# Altium footprint library LAN7800-IVSX.PcbLib: 3 footprints
Each footprint in its own frame and in the unit in brackets; x right, y up, seen from the top. Pads: shape width x height; smd on the part's side, far side on the other; paste and mask are expansions set on the pad; w line width, h text height; cw(c..) or ccw(c..) is an arc to the next point about the centre after c.
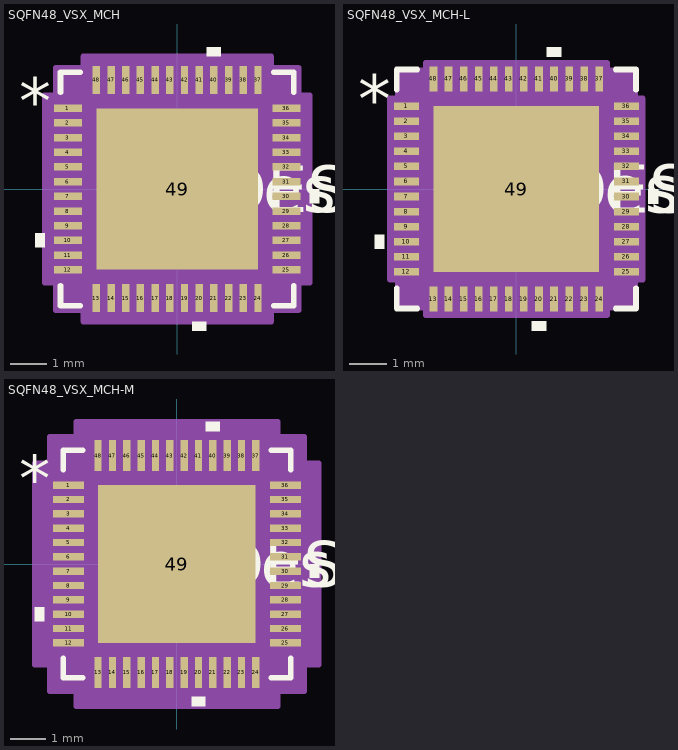
[diagram p0: the footprints below, top view; thin cyan lines are the x and y axes]

## SQFN48_VSX_MCH [mil]
pads (49):
  rect 30x8 smd paste+0 mask+0: 1(-117,86.61) 2(-117,70.87) 3(-117,55.12) 4(-117,39.37) 5(-117,23.62) 6(-117,7.87) 7(-117,-7.87) 8(-117,-23.62) 9(-117,-39.37) 10(-117,-55.12) 11(-117,-70.87) 12(-117,-86.61) 25(117,-86.61) 26(117,-70.87) 27(117,-55.12) 28(117,-39.37) 29(117,-23.62) 30(117,-7.87) 31(117,7.87) 32(117,23.62) 33(117,39.37) 34(117,55.12) 35(117,70.87) 36(117,86.61)
  rect 8x30 smd paste+0 mask+0: 13(-86.61,-117) 14(-70.87,-117) 15(-55.12,-117) 16(-39.37,-117) 17(-23.62,-117) 18(-7.87,-117) 19(7.87,-117) 20(23.62,-117) 21(39.37,-117) 22(55.12,-117) 23(70.87,-117) 24(86.61,-117) 37(86.61,117) 38(70.87,117) 39(55.12,117) 40(39.37,117) 41(23.62,117) 42(7.87,117) 43(-7.87,117) 44(-23.62,117) 45(-39.37,117) 46(-55.12,117) 47(-70.87,117) 48(-86.61,117)
  rect 173x173 smd paste-86.5 mask+0: 49(0,0)
Top Overlay:
  region: -142,-47.62 -152,-47.62 -152,-62.62 -142,-62.62
  region: 31.12,-142 16.12,-142 16.12,-152 31.12,-152
  region: 142,-0.37 152,-0.37 152,-15.37 142,-15.37
  region: 46.87,142 31.87,142 31.87,152 46.87,152
  lines w6: -125,-103.71 -125,-125 -103.71,-125 ; -125,103.71 -125,125 -103.71,125 ; 103.71,-125 125,-125 125,-103.71 ; 103.71,125 125,125 125,103.71
  text "*" at -169.5,69.49 h50
  text "RefDes" at -75,-25 h50
  text "REFDES" at -87.5,-25 h50
Top Paste:
  region: -32.77,82.56 -82.56,82.56 -82.56,32.77 -32.77,32.77
  region: -32.77,24.9 -82.56,24.9 -82.56,-24.9 -32.77,-24.9
  region: -32.77,-32.77 -82.56,-32.77 -82.56,-82.56 -32.77,-82.56
  region: 24.9,82.56 -24.9,82.56 -24.9,32.77 24.9,32.77
  region: 24.9,24.9 -24.9,24.9 -24.9,-24.9 24.9,-24.9
  region: 24.9,-32.77 -24.9,-32.77 -24.9,-82.56 24.9,-82.56
  region: 82.56,82.56 32.77,82.56 32.77,32.77 82.56,32.77
  region: 82.56,24.9 32.77,24.9 32.77,-24.9 82.56,-24.9
  region: 82.56,-32.77 32.77,-32.77 32.77,-82.56 82.56,-82.56
Mechanical 13:
  drawing of 201 lines, arcs and shapes, not listed
  text "*" at -114.5,69.49 h50
  text "RefDes2" at -87.5,-25 h50
Mechanical 15:
  region: -100.61,-130 -130,-130 -130,-100.61 -142,-100.61 -142,100.61 -130,100.61 -130,130 -100.61,130 -100.61,142 100.61,142 100.61,130 130,130 130,100.61 142,100.61 142,-100.61 130,-100.61 130,-130 100.61,-130 100.61,-142 -100.61,-142
  lines w6: -142,-100.61 -130,-100.61 -130,-130 -100.61,-130 -100.61,-142 100.61,-142 100.61,-130 130,-130 130,-100.61 142,-100.61 142,100.61 130,100.61 130,130 100.61,130 100.61,142 -100.61,142 -100.61,130 -130,130 -130,100.61 -142,100.61 -142,-100.61
3D body "SQFN48_VSX_MCH.step": height 35.12, standoff 0, extent -120,-120 120,120

## SQFN48_VSX_MCH-L [mil]
pads (49):
  rect 26x8 smd paste+0 mask+0: 1(-115,86.61) 2(-115,70.87) 3(-115,55.12) 4(-115,39.37) 5(-115,23.62) 6(-115,7.87) 7(-115,-7.87) 8(-115,-23.62) 9(-115,-39.37) 10(-115,-55.12) 11(-115,-70.87) 12(-115,-86.61) 25(115,-86.61) 26(115,-70.87) 27(115,-55.12) 28(115,-39.37) 29(115,-23.62) 30(115,-7.87) 31(115,7.87) 32(115,23.62) 33(115,39.37) 34(115,55.12) 35(115,70.87) 36(115,86.61)
  rect 8x26 smd paste+0 mask+0: 13(-86.61,-115) 14(-70.87,-115) 15(-55.12,-115) 16(-39.37,-115) 17(-23.62,-115) 18(-7.87,-115) 19(7.87,-115) 20(23.62,-115) 21(39.37,-115) 22(55.12,-115) 23(70.87,-115) 24(86.61,-115) 37(86.61,115) 38(70.87,115) 39(55.12,115) 40(39.37,115) 41(23.62,115) 42(7.87,115) 43(-7.87,115) 44(-23.62,115) 45(-39.37,115) 46(-55.12,115) 47(-70.87,115) 48(-86.61,115)
  rect 173x173 smd paste-86.5 mask+0: 49(0,0)
Top Overlay:
  region: -138,-47.62 -148,-47.62 -148,-62.62 -138,-62.62
  region: 31.12,-138 16.12,-138 16.12,-148 31.12,-148
  region: 138,-0.37 148,-0.37 148,-15.37 138,-15.37
  region: 46.87,138 31.87,138 31.87,148 46.87,148
  lines w6: -125,-103.71 -125,-125 -103.71,-125 ; -125,103.71 -125,125 -103.71,125 ; 103.71,-125 125,-125 125,-103.71 ; 103.71,125 125,125 125,103.71
  text "*" at -165.5,69.49 h50
  text "RefDes" at -75,-25 h50
  text "REFDES" at -87.5,-25 h50
Top Paste:
  region: -32.77,82.56 -82.56,82.56 -82.56,32.77 -32.77,32.77
  region: -32.77,24.9 -82.56,24.9 -82.56,-24.9 -32.77,-24.9
  region: -32.77,-32.77 -82.56,-32.77 -82.56,-82.56 -32.77,-82.56
  region: 24.9,82.56 -24.9,82.56 -24.9,32.77 24.9,32.77
  region: 24.9,24.9 -24.9,24.9 -24.9,-24.9 24.9,-24.9
  region: 24.9,-32.77 -24.9,-32.77 -24.9,-82.56 24.9,-82.56
  region: 82.56,82.56 32.77,82.56 32.77,32.77 82.56,32.77
  region: 82.56,24.9 32.77,24.9 32.77,-24.9 82.56,-24.9
  region: 82.56,-32.77 32.77,-32.77 32.77,-82.56 82.56,-82.56
Mechanical 13:
  drawing of 201 lines, arcs and shapes, not listed
  text "*" at -114.5,69.49 h50
  text "RefDes2" at -87.5,-25 h50
Mechanical 15:
  region: -94.61,-124 -124,-124 -124,-94.61 -132,-94.61 -132,94.61 -124,94.61 -124,124 -94.61,124 -94.61,132 94.61,132 94.61,124 124,124 124,94.61 132,94.61 132,-94.61 124,-94.61 124,-124 94.61,-124 94.61,-132 -94.61,-132
  lines w6: -132,-94.61 -124,-94.61 -124,-124 -94.61,-124 -94.61,-132 94.61,-132 94.61,-124 124,-124 124,-94.61 132,-94.61 132,94.61 124,94.61 124,124 94.61,124 94.61,132 -94.61,132 -94.61,124 -124,124 -124,94.61 -132,94.61 -132,-94.61
3D body "SQFN48_VSX_MCH.step": height 35.12, standoff 0, extent -120,-120 120,120

## SQFN48_VSX_MCH-M [mil]
pads (49):
  rect 34x8 smd paste+0 mask+0: 1(-119,86.61) 2(-119,70.87) 3(-119,55.12) 4(-119,39.37) 5(-119,23.62) 6(-119,7.87) 7(-119,-7.87) 8(-119,-23.62) 9(-119,-39.37) 10(-119,-55.12) 11(-119,-70.87) 12(-119,-86.61) 25(119,-86.61) 26(119,-70.87) 27(119,-55.12) 28(119,-39.37) 29(119,-23.62) 30(119,-7.87) 31(119,7.87) 32(119,23.62) 33(119,39.37) 34(119,55.12) 35(119,70.87) 36(119,86.61)
  rect 8x34 smd paste+0 mask+0: 13(-86.61,-119) 14(-70.87,-119) 15(-55.12,-119) 16(-39.37,-119) 17(-23.62,-119) 18(-7.87,-119) 19(7.87,-119) 20(23.62,-119) 21(39.37,-119) 22(55.12,-119) 23(70.87,-119) 24(86.61,-119) 37(86.61,119) 38(70.87,119) 39(55.12,119) 40(39.37,119) 41(23.62,119) 42(7.87,119) 43(-7.87,119) 44(-23.62,119) 45(-39.37,119) 46(-55.12,119) 47(-70.87,119) 48(-86.61,119)
  rect 173x173 smd paste-86.5 mask+0: 49(0,0)
Top Overlay:
  region: -146,-47.62 -156,-47.62 -156,-62.62 -146,-62.62
  region: 31.12,-146 16.12,-146 16.12,-156 31.12,-156
  region: 146,-0.37 156,-0.37 156,-15.37 146,-15.37
  region: 46.87,146 31.87,146 31.87,156 46.87,156
  lines w6: -125,-103.71 -125,-125 -103.71,-125 ; -125,103.71 -125,125 -103.71,125 ; 103.71,-125 125,-125 125,-103.71 ; 103.71,125 125,125 125,103.71
  text "*" at -173.5,69.49 h50
  text "RefDes" at -75,-25 h50
  text "REFDES" at -87.5,-25 h50
Top Paste:
  region: -32.77,82.56 -82.56,82.56 -82.56,32.77 -32.77,32.77
  region: -32.77,24.9 -82.56,24.9 -82.56,-24.9 -32.77,-24.9
  region: -32.77,-32.77 -82.56,-32.77 -82.56,-82.56 -32.77,-82.56
  region: 24.9,82.56 -24.9,82.56 -24.9,32.77 24.9,32.77
  region: 24.9,24.9 -24.9,24.9 -24.9,-24.9 24.9,-24.9
  region: 24.9,-32.77 -24.9,-32.77 -24.9,-82.56 24.9,-82.56
  region: 82.56,82.56 32.77,82.56 32.77,32.77 82.56,32.77
  region: 82.56,24.9 32.77,24.9 32.77,-24.9 82.56,-24.9
  region: 82.56,-32.77 32.77,-32.77 32.77,-82.56 82.56,-82.56
Mechanical 13:
  drawing of 201 lines, arcs and shapes, not listed
  text "*" at -114.5,69.49 h50
  text "RefDes2" at -87.5,-25 h50
Mechanical 15:
  region: -110.61,-140 -140,-140 -140,-110.61 -156,-110.61 -156,110.61 -140,110.61 -140,140 -110.61,140 -110.61,156 110.61,156 110.61,140 140,140 140,110.61 156,110.61 156,-110.61 140,-110.61 140,-140 110.61,-140 110.61,-156 -110.61,-156
  lines w6: -156,-110.61 -140,-110.61 -140,-140 -110.61,-140 -110.61,-156 110.61,-156 110.61,-140 140,-140 140,-110.61 156,-110.61 156,110.61 140,110.61 140,140 110.61,140 110.61,156 -110.61,156 -110.61,140 -140,140 -140,110.61 -156,110.61 -156,-110.61
3D body "SQFN48_VSX_MCH.step": height 35.12, standoff 0, extent -120,-120 120,120